# EAGLE library part RPI-ZERO (library gba-zero-parts)
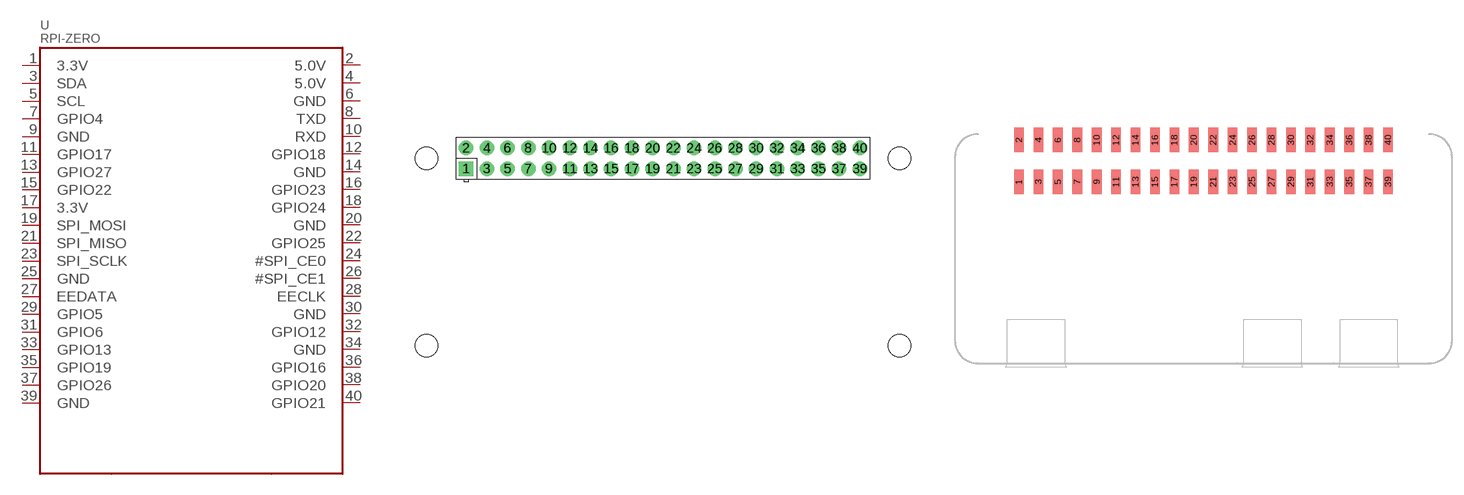
[diagram p0: symbol with the pads of RASPBERRYPI_BASTELSTUBE_V13_RASPI_BOARD_B+_FULL; footprints RASPBERRYPI_BASTELSTUBE_V13_RASPI_BOARD_B+_FULL, RPI-SMD]

Designator prefix U

## RPI-ZERO  [RASPBERRYPI_BASTELSTUBE_V13_RASPI_BOARD_B+_FULL]
1  3.3V
2  5.0V
3  SDA
4  5.0V
5  SCL
6  GND  sup
7  GPIO4
8  TXD
9  GND  sup
10  RXD
11  GPIO17
12  GPIO18
13  GPIO27
14  GND  sup
15  GPIO22
16  GPIO23
17  3.3V
18  GPIO24
19  SPI_MOSI
20  GND  sup
21  SPI_MISO
22  GPIO25
23  SPI_SCLK
24  #SPI_CE0
25  GND  sup
26  #SPI_CE1
27  EEDATA
28  EECLK
29  GPIO5
30  GND  sup
31  GPIO6
32  GPIO12
33  GPIO13
34  GND  sup
35  GPIO19
36  GPIO16
37  GPIO26
38  GPIO20
39  GND  sup
40  GPIO21

## RPI-ZEROSMD  [RPI-SMD]
Pads as for RASPBERRYPI_BASTELSTUBE_V13_RASPI_BOARD_B+_FULL

## Footprint RASPBERRYPI_BASTELSTUBE_V13_RASPI_BOARD_B+_FULL (pad centres in mm)
Raspberry Pi board model B+, full outline with position of big connectors & drill holes
drill 1 pad 1.778 square: 1 8.37,25.23
drill 1 pad 1.778: 2 8.37,27.77; 3 10.91,25.23; 4 10.91,27.77; 5 13.45,25.23; 6 13.45,27.77; 7 15.99,25.23; 8 15.99,27.77; 9 18.53,25.23; 10 18.53,27.77; 11 21.07,25.23; 12 21.07,27.77; 13 23.61,25.23; 14 23.61,27.77; 15 26.15,25.23; 16 26.15,27.77; 17 28.69,25.23; 18 28.69,27.77; 19 31.23,25.23; 20 31.23,27.77; 21 33.77,25.23; 22 33.77,27.77; 23 36.31,25.23; 24 36.31,27.77; 25 38.85,25.23; 26 38.85,27.77; 27 41.39,25.23; 28 41.39,27.77; 29 43.93,25.23; 30 43.93,27.77; 31 46.47,25.23; 32 46.47,27.77; 33 49.01,25.23; 34 49.01,27.77; 35 51.55,25.23; 36 51.55,27.77; 37 54.09,25.23; 38 54.09,27.77; 39 56.63,25.23; 40 56.63,27.77
hole 2.75 at 3.5,3.5
hole 2.75 at 3.5,26.5
hole 2.75 at 61.5,3.5
hole 2.75 at 61.5,26.5

## Footprint RPI-SMD (pad centres in mm)
smd 1.27 x 3.175: 1 -24.13,-2.731; 2 -24.13,2.731; 3 -21.59,-2.731; 4 -21.59,2.731; 5 -19.05,-2.731; 6 -19.05,2.731; 7 -16.51,-2.731; 8 -16.51,2.731; 9 -13.97,-2.731; 10 -13.97,2.731; 11 -11.43,-2.731; 12 -11.43,2.731; 13 -8.89,-2.731; 14 -8.89,2.731; 15 -6.35,-2.731; 16 -6.35,2.731; 17 -3.81,-2.731; 18 -3.81,2.731; 19 -1.27,-2.731; 20 -1.27,2.731; 21 1.27,-2.731; 22 1.27,2.731; 23 3.81,-2.731; 24 3.81,2.731; 25 6.35,-2.731; 26 6.35,2.731; 27 8.89,-2.731; 28 8.89,2.731; 29 11.43,-2.731; 30 11.43,2.731; 31 13.97,-2.731; 32 13.97,2.731; 33 16.51,-2.731; 34 16.51,2.731; 35 19.05,-2.731; 36 19.05,2.731; 37 21.59,-2.731; 38 21.59,2.731; 39 24.13,-2.731; 40 24.13,2.731